# Altium footprint library Hello.PcbLib: 234 footprints (part 14 of 15)
Each footprint in its own frame and in the unit in brackets; x right, y up, seen from the top. Pads: shape width x height; smd on the part's side, far side on the other; paste and mask are expansions set on the pad; w line width, h text height; cw(c..) or ccw(c..) is an arc to the next point about the centre after c.
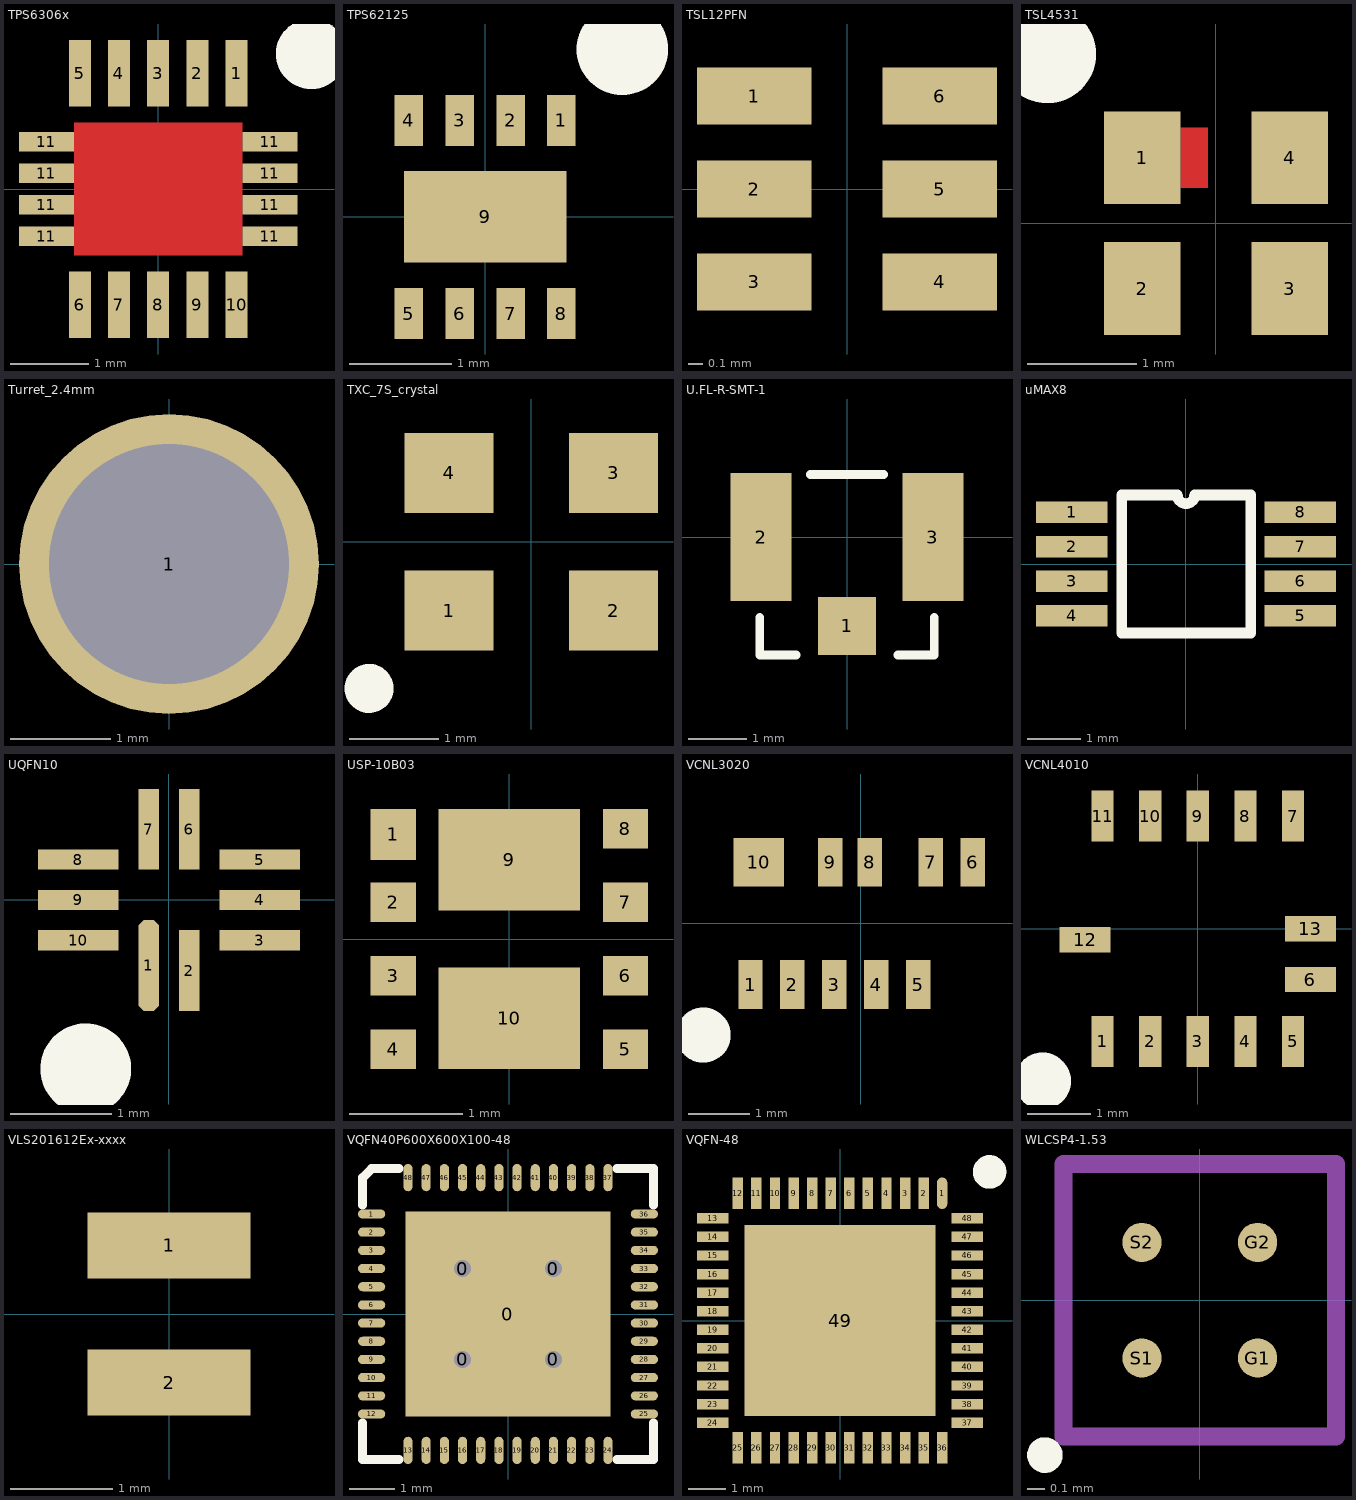
[diagram p13: the footprints below, top view; thin cyan lines are the x and y axes]

## TPS6306x [mm] "QFN custom footprint for TI TPS6306x"
height 0.8
pads (18):
  rect 0.28x0.85 smd paste-0.07: 1(1,1.475) 2(0.5,1.475) 3(0,1.475) 4(-0.5,1.475) 5(-1,1.475) 6(-1,-1.475) 7(-0.5,-1.475) 8(0,-1.475) 9(0.5,-1.475) 10(1,-1.475)
  rect 0.7x0.25 smd paste-0.07: 11(-1.425,-0.6) 11(-1.425,-0.2) 11(-1.425,0.2) 11(-1.425,0.6) 11(1.425,-0.6) 11(1.425,-0.2) 11(1.425,0.2) 11(1.425,0.6)
Top Layer:
  rectangle: -1.075,-0.85 1.075,0.85
Top Overlay:
  circle w0.7: c1.95,1.725 r0.1
Top Paste:
  rectangle: 0.1,-0.75 1,-0.1
  rectangle: 0.1,0.1 1,0.75
  rectangle: -1,0.1 -0.1,0.75
  rectangle: -1,-0.75 -0.1,-0.1
3D body: height 1, standoff 0, extent -1.575,-1.575 1.575,1.575

## TPS62125 [mm] "Buck DC/DC converter 300mA"
height 0.8
pads (9):
  rect 0.28x0.5 smd paste-0.07: 1(0.75,0.95) 2(0.25,0.95) 3(-0.25,0.95) 4(-0.75,0.95) 5(-0.75,-0.95) 6(-0.25,-0.95) 7(0.25,-0.95) 8(0.75,-0.95)
  rect 1.6x0.9 smd paste-0.2: 9(0,0)
Top Overlay:
  circle w0.7: c1.35,1.65 r0.1
3D body: height 0.8, standoff 0.05, extent -1.05,-1.05 1.05,1.05

## TSL12PFN [mm] "AMS 400-700nm optical sensor with integrated TIA"
height 0.65
pads (6):
  rect 0.8x0.4 smd: 1(-0.65,0.65) 2(-0.65,0) 3(-0.65,-0.65) 4(0.65,-0.65) 5(0.65,0) 6(0.65,0.65)
3D body: height 0.65, standoff 0.1, extent -1,-1 1,1

## TSL4531 [mm] "TAOS ALS"
height 0.7
pads (4):
  rect 0.7x0.85 smd: 1(-0.675,0.6) 2(-0.675,-0.6) 3(0.675,-0.6) 4(0.675,0.6)
Top Layer:
  region: -0.325,0.325 -0.075,0.325 -0.075,0.875 -0.325,0.875
Top Overlay:
  circle w0.7: c-1.55,1.55 r0.1
3D body: height 0.7, standoff 0, extent -1,-1 1,1

## Turret_2.4mm [mm] "Turret_2.4mm"
height 5.6
pads (1):
  round 3 hole 2.4 paste-1: 1(0,0)
3D body: height 1.2, standoff -7.13, extent -1.587,-1.587 1.588,1.588

## TXC_7S_crystal [mm] "special footprint for all 7S series TXC crystals. 2.5x2.0 mm"
height 0.75
pads (4):
  rect 1x0.9 smd: 1(-0.925,-0.775) 2(0.925,-0.775) 3(0.925,0.775) 4(-0.925,0.775)
Top Overlay:
  circle w0.3: c-1.825,-1.65 r0.125
3D body: height 0.75, standoff 0, extent -1.35,-1.15 1.35,1.15

## U.FL-R-SMT-1 [mm] "U.FL type antenna connector"
height 1.25
pads (3):
  rect 1x1 smd: 1(0,-1.525)
  rect 1.05x2.2 smd: 2(-1.475,0) 3(1.475,0)
Top Overlay:
  lines w0.15: -1.5,-1.375 -1.5,-2.025 -0.875,-2.025 ; -0.625,1.075 0.625,1.075 ; 0.875,-2.025 1.5,-2.025 1.5,-1.375
3D body: height 1.25, standoff 0, extent -1.5,-2.025 1.5,1.075

## uMAX8 [mm] "Maxim SOIC8 package"
height 0.95
pads (8):
  rect 1.35x0.4 smd: 1(-2.15,0.975) 2(-2.15,0.325) 3(-2.15,-0.325) 4(-2.15,-0.975) 5(2.15,-0.975) 6(2.15,-0.325) 7(2.15,0.325) 8(2.15,0.975)
Top Overlay:
  lines w0.2: -1.207,-1.3 -1.207,1.3 -0.162,1.3 ccw(c0,1.3) 0.162,1.3 1.219,1.3 1.219,-1.3 -1.207,-1.3
3D body: height 0.95, standoff 0.15, extent -2.219,-1.172 2.26,1.176

## UQFN10 [mm]
pads (10):
  oct 0.2x0.9 smd mask+0.05: 1(-0.2,-0.65)
  rect 0.2x0.8 smd mask+0.05: 2(0.2,-0.7) 6(0.2,0.7) 7(-0.2,0.7)
  rect 0.8x0.2 smd mask+0.05: 3(0.9,-0.4) 4(0.9,0) 5(0.9,0.4) 8(-0.9,0.4) 9(-0.9,0) 10(-0.9,-0.4)
Top Overlay:
  circle w0.5: c-0.825,-1.675 r0.2
3D body: height 0.5, standoff 0.05, extent -1.3,-1.1 1.3,1.125

## USP-10B03 [mm] "10-pin QFN 2.5 x2.15x1.0mm"
height 1.05
pads (10):
  rect 0.4x0.45 smd mask+0.08: 1(-1.025,0.925)
  rect 0.4x0.35 smd mask+0.08: 2(-1.025,0.325) 3(-1.025,-0.325) 4(-1.025,-0.975) 5(1.025,-0.975) 6(1.025,-0.325) 7(1.025,0.325) 8(1.025,0.975)
  rect 1.25x0.9 smd mask+0.08: 9(0,0.7) 10(0,-0.7)
3D body: height 1.05, standoff 0, extent -1.1,-1.275 1.1,1.275

## VCNL3020 [mm] "Vishay proximity sensor"
height 0.83
pads (10):
  rect 0.4x0.8 smd: 1(-1.8,-1) 2(-1.115,-1) 3(-0.43,-1) 4(0.255,-1) 5(0.94,-1) 6(1.83,1) 7(1.15,1) 8(0.15,1) 9(-0.5,1)
  rect 0.83x0.8 smd: 10(-1.665,1)
Top Overlay:
  circle w0.7: c-2.575,-1.825 r0.1
3D body: height 0.83, standoff 0, extent -2.45,-1.2 2.45,1.2

## VCNL4010 [mm] "Vishay ALS and proximity sensor with interrupt"
height 0.75
pads (13):
  rect 0.35x0.805 smd: 1(-1.5,-1.775) 2(-0.75,-1.775) 3(0,-1.775) 4(0.75,-1.775) 5(1.5,-1.775) 7(1.5,1.775) 8(0.75,1.775) 9(0,1.775) 10(-0.75,1.775) 11(-1.5,1.775)
  rect 0.805x0.4 smd: 6(1.775,-0.8) 12(-1.775,-0.175) 13(1.775,0)
Top Overlay:
  circle w0.7: c-2.45,-2.4 r0.1
3D body: height 0.75, standoff 0, extent -1.975,-1.975 1.975,1.975

## VLS201612Ex-xxxx [mm] "TDK SMD shielded power inductor"
height 1.2
pads (2):
  rect 1.6x0.65 smd: 1(0,0.675) 2(0,-0.675)
3D body: height 1.45, standoff 0, extent -0.8,-1 0.8,1

## VQFN40P600X600X100-48 [mm]
height 1.1
pads (53):
  round 0.635 hole 0.381: 0(-1,-1) 0(-1,1) 0(1,-1) 0(1,1)
  rect 4.5x4.5 smd: 0(0,0)
  oval 0.6x0.2 smd: 1(-3,2.2) 2(-3,1.8) 3(-3,1.4) 4(-3,1) 5(-3,0.6) 6(-3,0.2) 7(-3,-0.2) 8(-3,-0.6) 9(-3,-1) 10(-3,-1.4) 11(-3,-1.8) 12(-3,-2.2) 25(3,-2.2) 26(3,-1.8) 27(3,-1.4) 28(3,-1) 29(3,-0.6) 30(3,-0.2) 31(3,0.2) 32(3,0.6) 33(3,1) 34(3,1.4) 35(3,1.8) 36(3,2.2)
  oval 0.2x0.6 smd: 13(-2.2,-3) 14(-1.8,-3) 15(-1.4,-3) 16(-1,-3) 17(-0.6,-3) 18(-0.2,-3) 19(0.2,-3) 20(0.6,-3) 21(1,-3) 22(1.4,-3) 23(1.8,-3) 24(2.2,-3) 37(2.2,3) 38(1.8,3) 39(1.4,3) 40(1,3) 41(0.6,3) 42(0.2,3) 43(-0.2,3) 44(-0.6,3) 45(-1,3) 46(-1.4,3) 47(-1.8,3) 48(-2.2,3)
Top Overlay:
  lines w0.2: -3.2,-2.4 -3.2,-3.2 -2.4,-3.2 ; -3.2,2.4 -3.2,3 -3,3.2 -2.4,3.2 ; 2.4,-3.2 3.2,-3.2 3.2,-2.4 ; 2.4,3.2 3.2,3.2 3.2,2.4
Top Paste:
  circle w0.5: c1,-1 r0.25
  circle w0.5: c1,1 r0.25
  circle w0.5: c-1,1 r0.25
  circle w0.5: c-1,-1 r0.25
Mechanical 15:
  lines w0.1: -0.5,0 0.5,0 ; 0,-0.5 0,0.5

## VQFN-48 [mm] "QFN, 48-Leads, Body 7.00x7.00mm, Pitch 0.50mm, Thermal Pad 5.15x5.15mm"
height 1
pads (49):
  oval 0.28x0.85 smd paste-0.07: 1(2.75,3.425)
  rect 0.28x0.85 smd paste-0.07: 2(2.25,3.425) 3(1.75,3.425) 4(1.25,3.425) 5(0.75,3.425) 6(0.25,3.425) 7(-0.25,3.425) 8(-0.75,3.425) 9(-1.25,3.425) 10(-1.75,3.425) 11(-2.25,3.425) 12(-2.75,3.425) 25(-2.75,-3.425) 26(-2.25,-3.425) 27(-1.75,-3.425) 28(-1.25,-3.425) 29(-0.75,-3.425) 30(-0.25,-3.425) 31(0.25,-3.425) 32(0.75,-3.425) 33(1.25,-3.425) 34(1.75,-3.425) 35(2.25,-3.425) 36(2.75,-3.425)
  rect 0.85x0.28 smd paste-0.07: 13(-3.425,2.75) 14(-3.425,2.25) 15(-3.425,1.75) 16(-3.425,1.25) 17(-3.425,0.75) 18(-3.425,0.25) 19(-3.425,-0.25) 20(-3.425,-0.75) 21(-3.425,-1.25) 22(-3.425,-1.75) 23(-3.425,-2.25) 24(-3.425,-2.75) 37(3.425,-2.75) 38(3.425,-2.25) 39(3.425,-1.75) 40(3.425,-1.25) 41(3.425,-0.75) 42(3.425,-0.25) 43(3.425,0.25) 44(3.425,0.75) 45(3.425,1.25) 46(3.425,1.75) 47(3.425,2.25) 48(3.425,2.75)
  rect 5.15x5.15 smd paste-0.5 mask+0.102: 49(0,0)
Top Overlay:
  circle w0.5: c4.025,4 r0.2
3D body: height 1, standoff 0.08, extent -3.9,-3.85 3.85,3.85

## WLCSP4-1.53 [mm] "4-Ball WLCSP 1.53 x 1.53mm"
height 0.43
pads (4):
  round 0.22 smd: G1(0.325,-0.325) G2(0.325,0.325) S1(-0.325,-0.325) S2(-0.325,0.325)
Top Overlay:
  circle w0.1: c-0.87,-0.87 r0.05
Mechanical 13:
  lines w0.1: -0.765,-0.765 -0.765,0.765 0.765,0.765 0.765,-0.765 -0.765,-0.765
3D body: height 0.43, standoff 0.11, extent -0.765,-0.765 0.765,0.765